# EAGLE library part VP32 (library trafo)
TRANSFORMER 1 primary winding, 2 secondary windings BLOCK
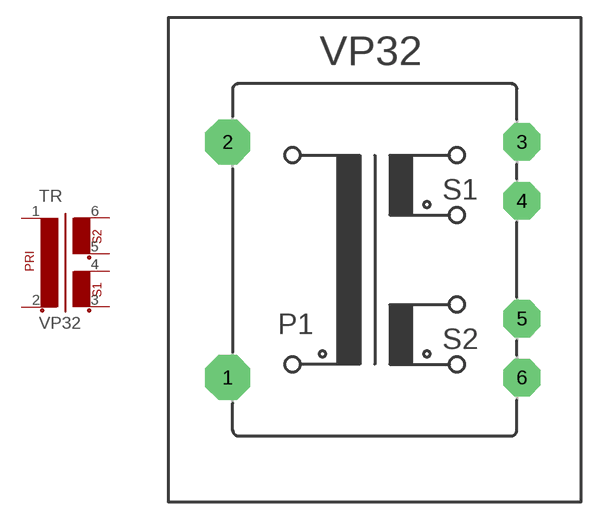
[diagram p26: symbol with the pads of VP32; footprint VP32]

Designator prefix TR

## VP32  [VP32]
1  1  pas
2  2  pas
3  3  pas
4  4  pas
5  5  pas
6  6  pas

## Footprint VP32 (pad centres in mm)
TRANSFORMER 1 primary winding, 2 secondary windings
drill 1.321 pad 3.81 octagon: 1 -12.497,-10.008; 2 -12.497,10.008
drill 1.321 pad 3.175 octagon: 3 12.497,10.008; 4 12.497,5.004; 5 12.497,-5.004; 6 12.497,-10.008